# Altium footprint library Daxxn_Packages.PcbLib: 84 footprints (part 3 of 6)
Each footprint in its own frame and in the unit in brackets; x right, y up, seen from the top. Pads: shape width x height; smd on the part's side, far side on the other; paste and mask are expansions set on the pad; w line width, h text height; cw(c..) or ccw(c..) is an arc to the next point about the centre after c.
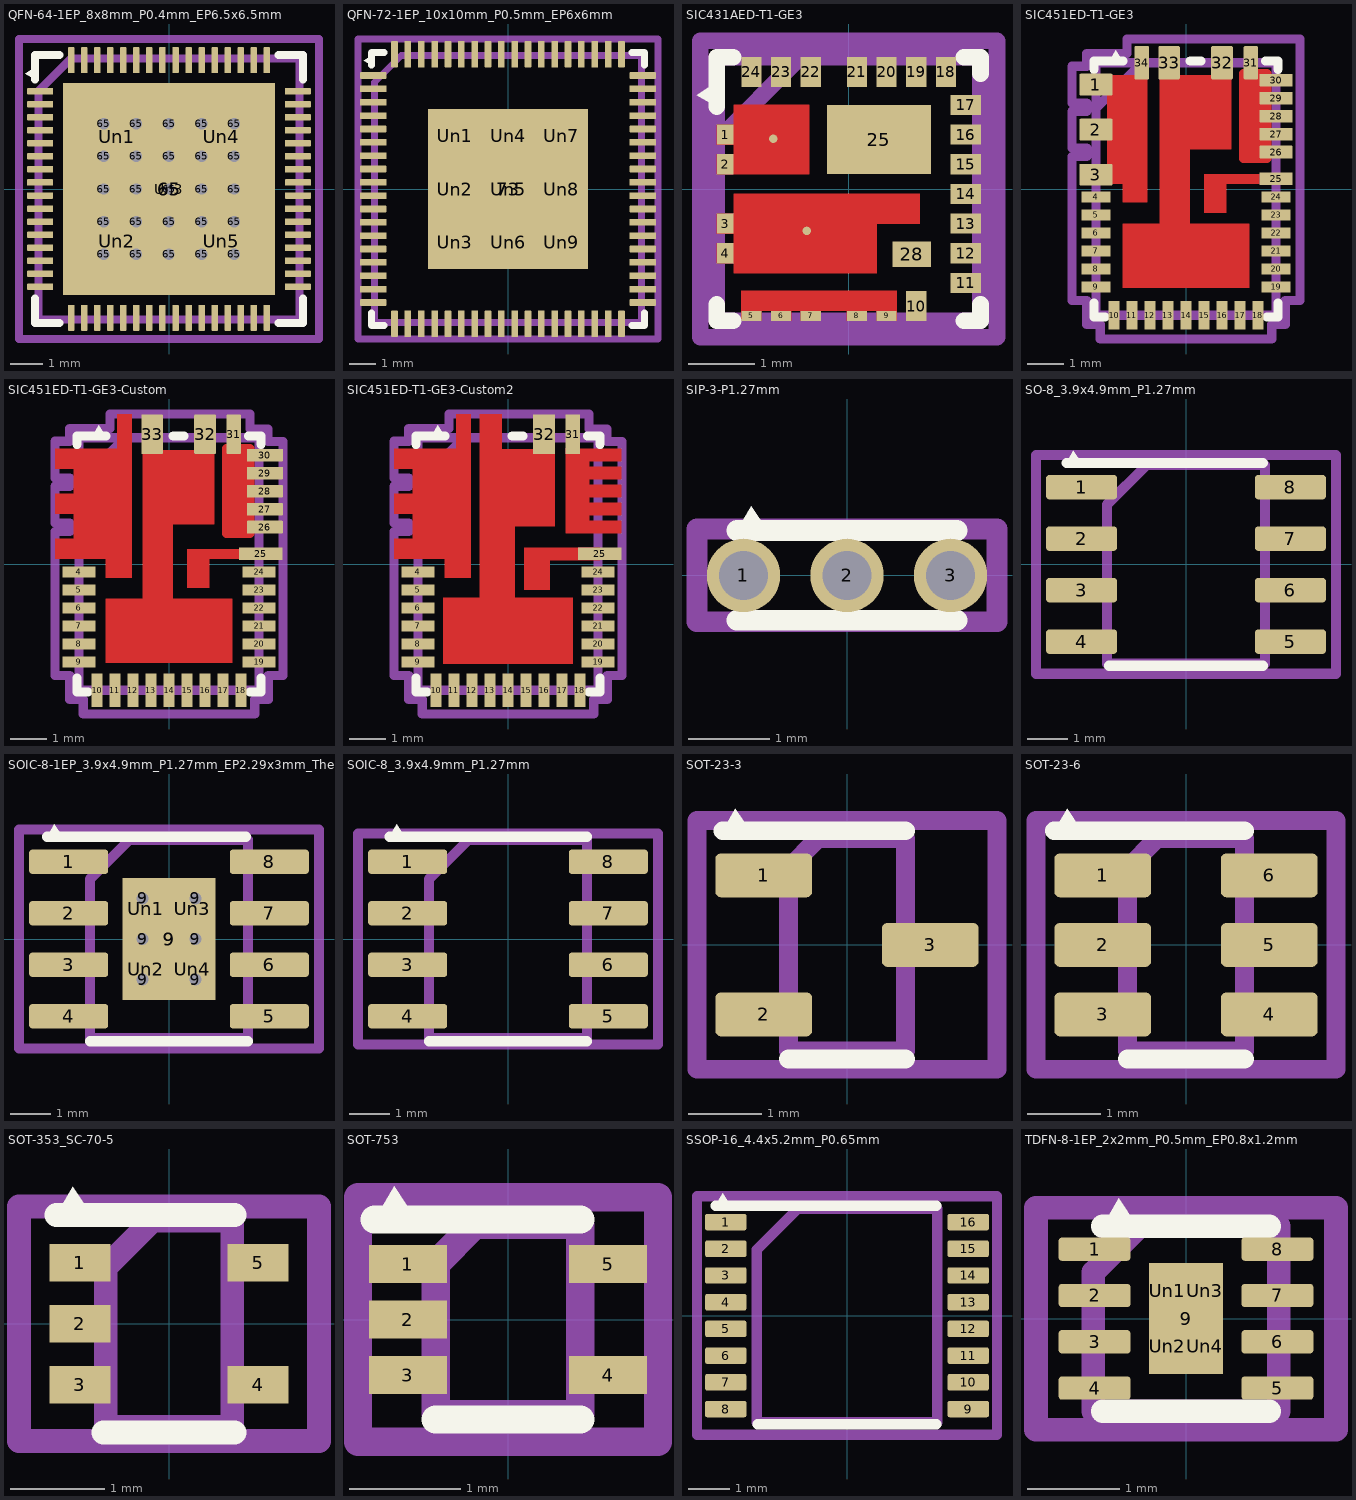
[diagram p2: the footprints below, top view; thin cyan lines are the x and y axes]

## QFN-64-1EP_8x8mm_P0.4mm_EP6.5x6.5mm [mm]
pads (96):
  rrect25% 0.8x0.2 smd: 1(-3.95,3) 2(-3.95,2.6) 3(-3.95,2.2) 4(-3.95,1.8) 5(-3.95,1.4) 6(-3.95,1) 7(-3.95,0.6) 8(-3.95,0.2) 9(-3.95,-0.2) 10(-3.95,-0.6) 11(-3.95,-1) 12(-3.95,-1.4) 13(-3.95,-1.8) 14(-3.95,-2.2) 15(-3.95,-2.6) 16(-3.95,-3) 33(3.95,-3) 34(3.95,-2.6) 35(3.95,-2.2) 36(3.95,-1.8) 37(3.95,-1.4) 38(3.95,-1) 39(3.95,-0.6) 40(3.95,-0.2) 41(3.95,0.2) 42(3.95,0.6) 43(3.95,1) 44(3.95,1.4) 45(3.95,1.8) 46(3.95,2.2) 47(3.95,2.6) 48(3.95,3)
  rrect25% 0.2x0.8 smd: 17(-3,-3.95) 18(-2.6,-3.95) 19(-2.2,-3.95) 20(-1.8,-3.95) 21(-1.4,-3.95) 22(-1,-3.95) 23(-0.6,-3.95) 24(-0.2,-3.95) 25(0.2,-3.95) 26(0.6,-3.95) 27(1,-3.95) 28(1.4,-3.95) 29(1.8,-3.95) 30(2.2,-3.95) 31(2.6,-3.95) 32(3,-3.95) 49(3,3.95) 50(2.6,3.95) 51(2.2,3.95) 52(1.8,3.95) 53(1.4,3.95) 54(1,3.95) 55(0.6,3.95) 56(0.2,3.95) 57(-0.2,3.95) 58(-0.6,3.95) 59(-1,3.95) 60(-1.4,3.95) 61(-1.8,3.95) 62(-2.2,3.95) 63(-2.6,3.95) 64(-3,3.95)
  round 0.5 hole 0.35: 65(-2,-2) 65(-2,-1) 65(-2,0) 65(-2,1) 65(-2,2) 65(-1,-2) 65(-1,-1) 65(-1,0) 65(-1,1) 65(-1,2) 65(0,-2) 65(0,-1) 65(0,0) 65(0,1) 65(0,2) 65(1,-2) 65(1,-1) 65(1,0) 65(1,1) 65(1,2) 65(2,-2) 65(2,-1) 65(2,0) 65(2,1) 65(2,2)
  rect 2.5x2.5 smd far side: 65(0,0)
  rect 6.5x6.5 smd: 65(0,0)
  rrect24% 1.725x1.725 on Top Paste: Un1(-1.6,1.6) Un2(-1.6,-1.6) Un4(1.6,1.6) Un5(1.6,-1.6)
  rrect24% 1.05x1.05 on Top Paste: Un3(0,0)
F.SilkS:
  region: -4.11,3.36 -4.41,3.535 -4.11,3.735
  lines w0.254: -4.11,-3.36 -4.11,-4.11 -3.36,-4.11 ; -4.11,3.36 -4.11,4.11 -3.36,4.11 ; 3.36,-4.11 4.11,-4.11 4.11,-3.36 ; 3.36,4.11 4.11,4.11 4.11,3.36
F.CrtYd:
  lines w0.254: -4.6,-4.6 -4.6,4.6 4.6,4.6 4.6,-4.6 -4.6,-4.6
F.Fab:
  lines w0.254: -4,-4 -4,3 -3,4 4,4 4,-4 -4,-4
  text "'.Designator'" at -1.037,0.165 h0.25

## QFN-72-1EP_10x10mm_P0.5mm_EP6x6mm [mm]
pads (82):
  rrect25% 1x0.25 smd: 1(-5.05,4.25) 2(-5.05,3.75) 3(-5.05,3.25) 4(-5.05,2.75) 5(-5.05,2.25) 6(-5.05,1.75) 7(-5.05,1.25) 8(-5.05,0.75) 9(-5.05,0.25) 10(-5.05,-0.25) 11(-5.05,-0.75) 12(-5.05,-1.25) 13(-5.05,-1.75) 14(-5.05,-2.25) 15(-5.05,-2.75) 16(-5.05,-3.25) 17(-5.05,-3.75) 18(-5.05,-4.25) 37(5.05,-4.25) 38(5.05,-3.75) 39(5.05,-3.25) 40(5.05,-2.75) 41(5.05,-2.25) 42(5.05,-1.75) 43(5.05,-1.25) 44(5.05,-0.75) 45(5.05,-0.25) 46(5.05,0.25) 47(5.05,0.75) 48(5.05,1.25) 49(5.05,1.75) 50(5.05,2.25) 51(5.05,2.75) 52(5.05,3.25) 53(5.05,3.75) 54(5.05,4.25)
  rrect25% 0.25x1 smd: 19(-4.25,-5.05) 20(-3.75,-5.05) 21(-3.25,-5.05) 22(-2.75,-5.05) 23(-2.25,-5.05) 24(-1.75,-5.05) 25(-1.25,-5.05) 26(-0.75,-5.05) 27(-0.25,-5.05) 28(0.25,-5.05) 29(0.75,-5.05) 30(1.25,-5.05) 31(1.75,-5.05) 32(2.25,-5.05) 33(2.75,-5.05) 34(3.25,-5.05) 35(3.75,-5.05) 36(4.25,-5.05) 55(4.25,5.05) 56(3.75,5.05) 57(3.25,5.05) 58(2.75,5.05) 59(2.25,5.05) 60(1.75,5.05) 61(1.25,5.05) 62(0.75,5.05) 63(0.25,5.05) 64(-0.25,5.05) 65(-0.75,5.05) 66(-1.25,5.05) 67(-1.75,5.05) 68(-2.25,5.05) 69(-2.75,5.05) 70(-3.25,5.05) 71(-3.75,5.05) 72(-4.25,5.05)
  rect 6x6 smd: 73(0,0)
  rrect16% 1.61x1.61 on Top Paste: Un1(-2,2) Un2(-2,0) Un3(-2,-2) Un4(0,2) Un5(0,0) Un6(0,-2) Un7(2,2) Un8(2,0) Un9(2,-2)
F.SilkS:
  region: -5.11,4.635 -5.41,4.81 -5.11,5.01
  lines w0.254: -5.11,-4.635 -5.11,-5.11 -4.635,-5.11 ; -5.11,4.635 -5.11,5.11 -4.635,5.11 ; 4.635,-5.11 5.11,-5.11 5.11,-4.635 ; 4.635,5.11 5.11,5.11 5.11,4.635
F.CrtYd:
  lines w0.254: -5.62,-5.62 -5.62,5.62 5.62,5.62 5.62,-5.62 -5.62,-5.62
F.Fab:
  lines w0.254: -5,-5 -5,4 -4,5 5,5 5,-5 -5,-5
  text "'.Designator'" at -1.037,0.065 h0.25

## SIC431AED-T1-GE3 [mil]
pads (28):
  rect 10x12 smd: 1(-73.74,32.48) 2(-73.74,14.76) 3(-73.74,-20.67) 4(-73.74,-38.39)
  rect 12x6 smd: 5(-58.08,-75.74) 6(-40.36,-75.74) 7(-22.64,-75.74) 8(4.92,-75.74) 9(22.64,-75.74)
  rect 12x18 smd: 10(40.36,-69.88) 18(58.08,69.88) 19(40.36,69.88) 20(22.64,69.88) 21(4.92,69.88) 22(-22.64,69.88) 23(-40.36,69.88) 24(-58.08,69.88)
  rect 18x12 smd: 11(69.88,-56.1) 12(69.88,-38.39) 13(69.88,-20.67) 14(69.88,-2.95) 15(69.88,14.76) 16(69.88,32.48) 17(69.88,50.2)
  rect 62x41.34 smd: 25(18.07,29.53)
  round 5 smd: 26(-45,30) 27(-25,-25)
  rect 22.84x14.96 smd: 28(37.65,-38.98)
F.Cu:
  region: -23.46,8.86 -78.74,8.76 -78.74,20.76 -68.74,20.76 -68.74,26.48 -78.74,26.48 -78.74,38.48 -68.74,38.48 -68.74,50.2 -23.46,50.2
  region: 42.48,-2.97 42.48,-20.89 16.89,-20.89 16.89,-50.22 -68.74,-50.22 -68.74,-44.39 -78.74,-44.39 -78.74,-32.39 -68.74,-32.39 -68.74,-26.67 -78.74,-26.67 -78.74,-14.67 -68.74,-14.67 -68.74,-2.97
  region: 28.64,-78.74 16.64,-78.74 16.64,-72.74 10.92,-72.74 10.92,-78.74 -1.08,-78.74 -1.08,-72.74 -16.64,-72.74 -16.64,-78.74 -28.64,-78.74 -28.64,-72.74 -34.36,-72.74 -34.36,-78.74 -46.36,-78.74 -46.36,-72.74 -52.08,-72.74 -52.08,-78.74 -64.08,-78.74 -64.08,-60.88 28.64,-60.88
F.SilkS:
  region: -78.74,49.21 -90.55,56.1 -78.74,63.98
  lines w10: -78.74,-68.9 -78.74,-78.74 -68.9,-78.74 ; -78.74,49.21 -78.74,78.74 -68.9,78.74 ; 68.9,-78.74 78.74,-78.74 78.74,-68.9 ; 68.9,78.74 78.74,78.74 78.74,68.9
F.Paste:
  region: 27.56,-66.93 -62.99,-66.93 -62.99,-59.06 27.56,-59.06
  region: -31.5,11.81 -59.06,11.81 -59.06,47.24 -31.5,47.24
  region: 11.81,-43.31 -59.06,-43.31 -59.06,-7.87 11.81,-7.87
  region: 43.31,15.75 -7.87,15.75 -7.87,43.31 43.31,43.31
  lines w10: -62.99,-66.93 -62.99,-59.06 27.56,-59.06 27.56,-66.93 -62.99,-66.93 ; -59.06,-43.31 -59.06,-7.87 11.81,-7.87 11.81,-43.31 -59.06,-43.31 ; -59.06,11.81 -59.06,47.24 -31.5,47.24 -31.5,11.81 -59.06,11.81 ; -7.87,15.75 -7.87,43.31 43.31,43.31 43.31,15.75 -7.87,15.75
F.Mask:
  region: -23.46,8.86 -78.74,8.76 -78.74,20.76 -68.74,20.76 -68.74,26.48 -78.74,26.48 -78.74,38.48 -68.74,38.48 -68.74,50.2 -23.46,50.2
  region: 42.48,-2.97 42.48,-20.89 16.89,-20.89 16.89,-50.22 -68.74,-50.22 -68.74,-44.39 -78.74,-44.39 -78.74,-32.39 -68.74,-32.39 -68.74,-26.67 -78.74,-26.67 -78.74,-14.67 -68.74,-14.67 -68.74,-2.97
  region: 28.64,-78.74 16.64,-78.74 16.64,-72.74 10.92,-72.74 10.92,-78.74 -1.08,-78.74 -1.08,-72.74 -16.64,-72.74 -16.64,-78.74 -28.64,-78.74 -28.64,-72.74 -34.36,-72.74 -34.36,-78.74 -46.36,-78.74 -46.36,-72.74 -52.08,-72.74 -52.08,-78.74 -64.08,-78.74 -64.08,-60.88 28.64,-60.88
F.CrtYd:
  lines w10: -88.58,-88.58 -88.58,88.58 88.58,88.58 88.58,-88.58 -88.58,-88.58
F.Fab:
  lines w10: -78.74,28.74 -28.74,78.74 ; -78.74,-78.74 -78.74,78.74 78.74,78.74 78.74,-78.74 -78.74,-78.74
  text "'.Designator'" at -40.81,0.59 h9.84
Cmts.User:
  text "Copyright 2021 Accelerated Designs. All rights reserved." at -96.55,-3.53 h5

## SIC451ED-T1-GE3 [mm]
pads (34):
  rrect10% 0.92x0.6 smd: 1(-2.502,2.901) 2(-2.502,1.651) 3(-2.502,0.399)
  rect 0.8x0.3 smd: 4(-2.502,-0.221) 5(-2.502,-0.719) 6(-2.502,-1.219) 7(-2.502,-1.72) 8(-2.502,-2.22) 9(-2.502,-2.72) 19(2.502,-2.72) 20(2.502,-2.22) 21(2.502,-1.72) 22(2.502,-1.219) 23(2.502,-0.719) 24(2.502,-0.221)
  rect 0.3x0.8 smd: 10(-1.999,-3.505) 11(-1.501,-3.505) 12(-1.001,-3.505) 13(-0.5,-3.505) 14(0,-3.505) 15(0.5,-3.505) 16(1.001,-3.505) 17(1.501,-3.505) 18(1.999,-3.505)
  rect 0.92x0.35 smd: 25(2.502,0.279)
  rrect10% 0.92x0.35 smd: 26(2.502,1.026) 27(2.502,1.524) 28(2.502,2.024) 29(2.502,2.525) 30(2.502,3.025)
  rrect15% 0.4x0.92 smd: 31(1.801,3.505)
  rrect10% 0.6x0.92 smd: 32(1.001,3.505) 33(-0.47,3.505)
  rrect10% 0.4x0.92 smd: 34(-1.229,3.505)
F.Cu:
  region: 2.25,0.85 1.601,0.85 1.601,3.205 2.25,3.205
  region: 2.038,0.152 1.115,0.152 1.115,-0.66 0.505,-0.66 0.505,0.406 2.038,0.406
  region: 0.707,3.062 1.255,3.062 1.255,1.11 0.107,1.11 0.107,-0.97 1.753,-0.97 1.753,-2.748 -1.753,-2.748 -1.753,-0.97 -0.724,-0.97 -0.724,3.062 -0.176,3.062 -0.176,3.155 0.707,3.155
  region: -1.382,3.062 -1.077,3.062 -1.077,-0.371 -1.75,-0.371 -1.75,0.145 -2.088,0.145 -2.088,0.693 -2.187,0.693 -2.187,1.357 -2.078,1.357 -2.078,1.945 -2.187,1.945 -2.187,2.607 -2.078,2.607 -2.078,3.155 -1.382,3.155
  lines w0.254: 1.601,0.85 1.601,3.205 2.25,3.205 2.25,0.85 1.601,0.85
F.SilkS:
  region: -1.75,3.55 -2.125,3.55 -1.95,3.85
  lines w0.254: -2.55,-3.168 -2.55,-3.55 -2.25,-3.55 ; -2.55,3.325 -2.55,3.55 -1.75,3.55 ; 0.117,3.55 0.414,3.55 ; 2.207,3.55 2.55,3.55 2.55,3.325 ; 2.25,-3.55 2.55,-3.55 2.55,-3.168
F.Paste:
  region: -1.15,-0.3 -1.7,-0.3 -1.7,2.85 -1.15,2.85
  region: 1.45,-2.55 -1.45,-2.55 -1.45,-1.25 1.45,-1.25
  region: 1,1.4 -0.5,1.4 -0.5,2.8 1,2.8
  region: 1,-0.55 0.6,-0.55 0.6,0.3 1,0.3
  lines w0.254: -1.7,-0.3 -1.7,2.85 -1.15,2.85 -1.15,-0.3 -1.7,-0.3 ; -1.45,-2.55 -1.45,-1.25 1.45,-1.25 1.45,-2.55 -1.45,-2.55 ; -0.5,1.4 -0.5,2.8 1,2.8 1,1.4 -0.5,1.4 ; 0.6,-0.55 0.6,0.3 1,0.3 1,-0.55 0.6,-0.55
F.Mask:
  region: 2.908,0.152 1.115,0.152 1.115,-0.66 0.505,-0.66 0.505,0.406 2.908,0.406
  region: 1.255,1.11 0.107,1.11 0.107,-0.97 1.753,-0.97 1.753,-2.748 -1.753,-2.748 -1.753,-0.97 -0.724,-0.97 -0.724,3.912 -0.216,3.912 -0.216,3.155 0.747,3.155 0.747,3.912 1.255,3.912
  region: -1.077,-0.371 -1.75,-0.371 -1.75,0.145 -2.908,0.145 -2.908,0.653 -2.187,0.653 -2.187,1.397 -2.908,1.397 -2.908,1.905 -2.187,1.905 -2.187,2.647 -2.908,2.647 -2.908,3.155 -1.382,3.155 -1.382,3.912 -1.077,3.912
  region: 1.953,3.152 2.908,3.152 2.908,2.898 2.202,2.898 2.202,2.652 2.908,2.652 2.908,2.398 2.202,2.398 2.202,2.151 2.908,2.151 2.908,1.897 2.202,1.897 2.202,1.651 2.908,1.651 2.908,1.397 2.202,1.397 2.202,1.153 2.908,1.153 2.908,0.899 1.648,0.899 1.648,3.912 1.953,3.912
F.CrtYd:
  lines w0.254: -3.162,-3.101 -3.162,0.907 -2.756,0.907 -2.756,1.143 -3.162,1.143 -3.162,2.159 -2.756,2.159 -2.756,2.393 -3.162,2.393 -3.162,3.409 -2.756,3.409 -2.756,3.759 -1.636,3.759 -1.636,4.166 3.162,4.166 3.162,-3.101 2.756,-3.101 2.756,-3.759 2.38,-3.759 2.38,-4.166 -2.38,-4.166 -2.38,-3.759 -2.756,-3.759 -2.756,-3.101 -3.162,-3.101
F.Fab:
  lines w0.254: -2.502,2.235 -1.232,3.505 ; -2.502,-3.505 -2.502,3.505 2.502,3.505 2.502,-3.505 -2.502,-3.505
  text "'.Designator'" at -1.037,0.015 h0.25

## SIC451ED-T1-GE3-Custom [mm]
pads (31):
  rect 0.001x0.001 smd: 1(-3.16,2.92)
  rect 0.92x0.3 smd: 4(-2.502,-0.221) 5(-2.502,-0.719) 6(-2.502,-1.219) 7(-2.502,-1.72) 8(-2.502,-2.22) 9(-2.502,-2.72) 19(2.502,-2.72) 20(2.502,-2.22) 21(2.502,-1.72) 22(2.502,-1.219) 23(2.502,-0.719) 24(2.502,-0.221)
  rect 0.3x0.92 smd: 10(-1.999,-3.505) 11(-1.501,-3.505) 12(-1.001,-3.505) 13(-0.5,-3.505) 14(0,-3.505) 15(0.5,-3.505) 16(1.001,-3.505) 17(1.501,-3.505) 18(1.999,-3.505)
  rect 1.2x0.35 smd: 25(2.55,0.279)
  rrect10% 1x0.35 smd: 26(2.66,1.026) 27(2.66,1.524) 28(2.66,2.024) 29(2.66,2.525) 30(2.66,3.025)
  rrect15% 0.4x1.1 smd: 31(1.801,3.604)
  rrect10% 0.6x1.1 smd: 32(1.001,3.604) 33(-0.47,3.604)
F.Cu:
  region: 2.25,0.85 1.601,0.85 1.601,3.205 2.25,3.205
  region: 2.038,0.152 1.115,0.152 1.115,-0.66 0.505,-0.66 0.505,0.406 2.038,0.406
  region: 0.707,3.062 1.255,3.062 1.255,1.11 0.107,1.11 0.107,-0.97 1.753,-0.97 1.753,-2.748 -1.753,-2.748 -1.753,-0.97 -0.724,-0.97 -0.724,3.062 -0.176,3.062 -0.176,3.155 0.707,3.155
  region: -1.035,-0.38 -1.76,-0.38 -1.76,0.145 -3.16,0.145 -3.16,0.695 -2.64,0.695 -2.64,1.395 -3.16,1.395 -3.16,1.945 -2.64,1.945 -2.64,2.645 -3.16,2.645 -3.16,2.92 -3.16,3.195 -1.435,3.195 -1.435,4.155 -1.035,4.155
  lines w0.254: 1.601,0.85 1.601,3.205 2.25,3.205 2.25,0.85 1.601,0.85
F.SilkS:
  region: -1.75,3.55 -2.125,3.55 -1.95,3.85
  lines w0.254: -2.55,-3.168 -2.55,-3.55 -2.25,-3.55 ; -2.55,3.325 -2.55,3.55 -1.75,3.55 ; 0.117,3.55 0.414,3.55 ; 2.207,3.55 2.55,3.55 2.55,3.325 ; 2.25,-3.55 2.55,-3.55 2.55,-3.168
F.Paste:
  region: -2.2,2.7 -3.1,2.7 -3.1,3.15 -2.2,3.15
  region: -2.2,1.45 -3.1,1.45 -3.1,1.9 -2.2,1.9
  region: -2.2,0.2 -3.1,0.2 -3.1,0.65 -2.2,0.65
  region: -1.1,-0.35 -1.7,-0.35 -1.7,2.55 -1.1,2.55
  region: 1.55,-2.65 -1.55,-2.65 -1.55,-1.2 1.55,-1.2
  region: -1.1,3.1 -1.35,3.1 -1.35,4.1 -1.1,4.1
  region: 1.15,1.25 -0.6,1.25 -0.6,2.55 1.15,2.55
  region: 1.05,-0.6 0.55,-0.6 0.55,0.35 1.05,0.35
  lines w0.254: -3.1,0.2 -3.1,0.65 -2.2,0.65 -2.2,0.2 -3.1,0.2 ; -3.1,1.45 -3.1,1.9 -2.2,1.9 -2.2,1.45 -3.1,1.45 ; -3.1,2.7 -3.1,3.15 -2.2,3.15 -2.2,2.7 -3.1,2.7 ; -1.7,-0.35 -1.7,2.55 -1.1,2.55 -1.1,-0.35 -1.7,-0.35 ; -1.55,-2.65 -1.55,-1.2 1.55,-1.2 1.55,-2.65 -1.55,-2.65 ; -1.35,3.1 -1.35,4.1 -1.1,4.1 -1.1,3.1 -1.35,3.1 ; -0.6,1.25 -0.6,2.55 1.15,2.55 1.15,1.25 -0.6,1.25 ; 0.55,-0.6 0.55,0.35 1.05,0.35 1.05,-0.6 0.55,-0.6
F.Mask:
  region: 2.908,0.152 1.115,0.152 1.115,-0.66 0.505,-0.66 0.505,0.406 2.908,0.406
  region: 1.255,1.11 0.107,1.11 0.107,-0.97 1.753,-0.97 1.753,-2.748 -1.753,-2.748 -1.753,-0.97 -0.724,-0.97 -0.724,3.912 -0.216,3.912 -0.216,3.155 0.747,3.155 0.747,3.912 1.255,3.912
  region: -1.077,-0.371 -1.75,-0.371 -1.75,0.145 -2.908,0.145 -2.908,0.653 -2.187,0.653 -2.187,1.397 -2.908,1.397 -2.908,1.905 -2.187,1.905 -2.187,2.647 -2.908,2.647 -2.908,3.155 -1.382,3.155 -1.382,3.912 -1.077,3.912
  region: 1.953,3.152 2.908,3.152 2.908,2.898 2.202,2.898 2.202,2.652 2.908,2.652 2.908,2.398 2.202,2.398 2.202,2.151 2.908,2.151 2.908,1.897 2.202,1.897 2.202,1.651 2.908,1.651 2.908,1.397 2.202,1.397 2.202,1.153 2.908,1.153 2.908,0.899 1.648,0.899 1.648,3.912 1.953,3.912
  region: -1.035,-0.38 -1.76,-0.38 -1.76,0.145 -3.16,0.145 -3.16,0.695 -2.64,0.695 -2.64,1.395 -3.16,1.395 -3.16,1.945 -2.64,1.945 -2.64,2.645 -3.16,2.645 -3.16,2.92 -3.16,3.195 -1.435,3.195 -1.435,4.155 -1.035,4.155
F.CrtYd:
  lines w0.254: -3.162,-3.101 -3.162,0.907 -2.756,0.907 -2.756,1.143 -3.162,1.143 -3.162,2.159 -2.756,2.159 -2.756,2.393 -3.162,2.393 -3.162,3.409 -2.756,3.409 -2.756,3.759 -1.636,3.759 -1.636,4.166 2.25,4.166 2.25,3.75 2.75,3.75 2.75,3.4 3.162,3.4 3.162,-3.101 2.756,-3.101 2.756,-3.759 2.38,-3.759 2.38,-4.166 -2.38,-4.166 -2.38,-3.759 -2.756,-3.759 -2.756,-3.101 -3.162,-3.101
F.Fab:
  lines w0.254: -2.502,2.235 -1.232,3.505 ; -2.502,-3.505 -2.502,3.505 2.502,3.505 2.502,-3.505 -2.502,-3.505
  text "'.Designator'" at -1.037,0.015 h0.25

## SIC451ED-T1-GE3-Custom2 [mm]
pads (25):
  rect 0.001x0.001 smd: 1(-3.16,2.92)
  rect 0.92x0.3 smd: 4(-2.502,-0.221) 5(-2.502,-0.719) 6(-2.502,-1.219) 7(-2.502,-1.72) 8(-2.502,-2.22) 9(-2.502,-2.72) 19(2.502,-2.72) 20(2.502,-2.22) 21(2.502,-1.72) 22(2.502,-1.219) 23(2.502,-0.719) 24(2.502,-0.221)
  rect 0.3x0.92 smd: 10(-1.999,-3.505) 11(-1.501,-3.505) 12(-1.001,-3.505) 13(-0.5,-3.505) 14(0,-3.505) 15(0.5,-3.505) 16(1.001,-3.505) 17(1.501,-3.505) 18(1.999,-3.505)
  rect 1.2x0.35 smd: 25(2.55,0.279)
  rect 0.4x1.1 smd: 31(1.801,3.604)
  rect 0.6x1.1 smd: 32(1.001,3.604)
F.Cu:
  region: -1.035,-0.38 -1.76,-0.38 -1.76,0.145 -3.16,0.145 -3.16,0.695 -2.64,0.695 -2.64,1.395 -3.16,1.395 -3.16,1.945 -2.64,1.945 -2.64,2.645 -3.16,2.645 -3.16,2.92 -3.16,3.195 -1.435,3.195 -1.435,4.155 -1.035,4.155
  region: 2.55,0.104 0.455,0.104 0.455,0.454 2.55,0.454
  region: 1.16,-0.711 0.455,-0.711 0.455,0.289 1.16,0.289
  region: 2.251,0.854 1.601,0.854 1.601,3.204 2.251,3.204
  region: 3.151,2.854 2.151,2.854 2.151,3.204 3.151,3.204
  region: 3.151,2.354 2.151,2.354 2.151,2.704 3.151,2.704
  region: 3.151,1.854 2.151,1.854 2.151,2.204 3.151,2.204
  region: 3.151,1.354 2.151,1.354 2.151,1.704 3.151,1.704
  region: 3.151,0.854 2.151,0.854 2.151,1.204 3.151,1.204
  region: 1.301,1.054 -0.779,1.054 -0.779,3.184 0.701,3.184 0.701,3.604 1.301,3.604
  region: 0.181,-0.996 -0.779,-0.996 -0.779,1.054 0.181,1.054
  region: 1.801,-2.774 -1.799,-2.774 -1.799,-0.936 1.801,-0.936
  region: -0.179,3.054 -0.779,3.054 -0.779,4.154 -0.179,4.154
F.SilkS:
  region: -1.75,3.55 -2.125,3.55 -1.95,3.85
  lines w0.254: -2.55,-3.168 -2.55,-3.55 -2.25,-3.55 ; -2.55,3.325 -2.55,3.55 -1.75,3.55 ; 0.117,3.55 0.414,3.55 ; 2.207,3.55 2.55,3.55 2.55,3.325 ; 2.25,-3.55 2.55,-3.55 2.55,-3.168
F.Paste:
  region: -2.2,2.7 -3.1,2.7 -3.1,3.15 -2.2,3.15
  region: -2.2,1.45 -3.1,1.45 -3.1,1.9 -2.2,1.9
  region: -2.2,0.2 -3.1,0.2 -3.1,0.65 -2.2,0.65
  region: -1.1,-0.3 -1.7,-0.3 -1.7,2.55 -1.1,2.55
  region: 1.55,-2.65 -1.55,-2.65 -1.55,-1.2 1.55,-1.2
  region: -1.1,3.1 -1.35,3.1 -1.35,4.1 -1.1,4.1
  region: 1.15,1.25 -0.6,1.25 -0.6,2.55 1.15,2.55
  region: 1.05,-0.6 0.55,-0.6 0.55,0.35 1.05,0.35
  region: 1.935,3.33 1.665,3.33 1.665,4.085 1.935,4.085
  region: 2.15,0.925 1.675,0.925 1.675,3.1 2.15,3.1
  region: 3.09,0.165 2.215,0.165 2.215,0.395 3.09,0.395
  region: 2.91,2.915 2.495,2.915 2.495,3.145 2.91,3.145
  region: 2.91,2.415 2.495,2.415 2.495,2.645 2.91,2.645
  region: 2.91,1.915 2.495,1.915 2.495,2.145 2.91,2.145
  region: 2.91,1.415 2.495,1.415 2.495,1.645 2.91,1.645
  region: 2.91,0.915 2.495,0.915 2.495,1.145 2.91,1.145
  region: 1.301,1.054 -0.779,1.054 -0.779,3.184 0.701,3.184 0.701,3.604 1.301,3.604
  region: 0.181,-0.996 -0.779,-0.996 -0.779,1.054 0.181,1.054
  region: 1.801,-2.774 -1.799,-2.774 -1.799,-0.936 1.801,-0.936
  region: -0.179,3.054 -0.779,3.054 -0.779,4.154 -0.179,4.154
  lines w0.254: -3.1,0.2 -3.1,0.65 -2.2,0.65 -2.2,0.2 -3.1,0.2 ; -3.1,1.45 -3.1,1.9 -2.2,1.9 -2.2,1.45 -3.1,1.45 ; -3.1,2.7 -3.1,3.15 -2.2,3.15 -2.2,2.7 -3.1,2.7 ; -1.7,-0.3 -1.7,2.55 -1.1,2.55 -1.1,-0.3 -1.7,-0.3 ; -1.55,-2.65 -1.55,-1.2 1.55,-1.2 1.55,-2.65 -1.55,-2.65 ; -1.35,3.1 -1.35,4.1 -1.1,4.1 -1.1,3.1 -1.35,3.1 ; -0.6,1.25 -0.6,2.55 1.15,2.55 1.15,1.25 -0.6,1.25 ; 0.55,-0.6 0.55,0.35 1.05,0.35 1.05,-0.6 0.55,-0.6 ; 1.665,3.33 1.665,4.085 1.935,4.085 1.935,3.33 1.665,3.33 ; 1.675,0.925 1.675,3.1 2.15,3.1 2.15,0.925 1.675,0.925 ; 2.215,0.165 2.215,0.395 3.09,0.395 3.09,0.165 2.215,0.165 ; 2.495,0.915 2.91,0.915 2.91,1.145 2.495,1.145 2.495,0.915 ; 2.495,1.415 2.91,1.415 2.91,1.645 2.495,1.645 2.495,1.415 ; 2.495,1.915 2.91,1.915 2.91,2.145 2.495,2.145 2.495,1.915 ; 2.495,2.415 2.91,2.415 2.91,2.645 2.495,2.645 2.495,2.415 ; 2.495,2.915 2.91,2.915 2.91,3.145 2.495,3.145 2.495,2.915
F.Mask:
  region: -1.035,-0.38 -1.76,-0.38 -1.76,0.145 -3.16,0.145 -3.16,0.695 -2.64,0.695 -2.64,1.395 -3.16,1.395 -3.16,1.945 -2.64,1.945 -2.64,2.645 -3.16,2.645 -3.16,2.92 -3.16,3.195 -1.435,3.195 -1.435,4.155 -1.035,4.155
  region: 2.55,0.104 0.455,0.104 0.455,0.454 2.55,0.454
  region: 1.16,-0.711 0.455,-0.711 0.455,0.289 1.16,0.289
  region: 2.251,0.854 1.601,0.854 1.601,3.204 2.251,3.204
  region: 3.151,2.854 2.151,2.854 2.151,3.204 3.151,3.204
  region: 3.151,2.354 2.151,2.354 2.151,2.704 3.151,2.704
  region: 3.151,1.854 2.151,1.854 2.151,2.204 3.151,2.204
  region: 3.151,1.354 2.151,1.354 2.151,1.704 3.151,1.704
  region: 3.151,0.854 2.151,0.854 2.151,1.204 3.151,1.204
  region: 1.301,1.054 -0.779,1.054 -0.779,3.184 0.701,3.184 0.701,3.604 1.301,3.604
  region: 0.181,-0.996 -0.779,-0.996 -0.779,1.054 0.181,1.054
  region: 1.801,-2.774 -1.799,-2.774 -1.799,-0.936 1.801,-0.936
  region: -0.179,3.054 -0.779,3.054 -0.779,4.154 -0.179,4.154
F.CrtYd:
  lines w0.254: -3.162,-3.101 -3.162,0.907 -2.756,0.907 -2.756,1.143 -3.162,1.143 -3.162,2.159 -2.756,2.159 -2.756,2.393 -3.162,2.393 -3.162,3.409 -2.756,3.409 -2.756,3.759 -1.636,3.759 -1.636,4.166 2.25,4.166 2.25,3.75 2.75,3.75 2.75,3.4 3.162,3.4 3.162,-3.101 2.756,-3.101 2.756,-3.759 2.38,-3.759 2.38,-4.166 -2.38,-4.166 -2.38,-3.759 -2.756,-3.759 -2.756,-3.101 -3.162,-3.101
F.Fab:
  lines w0.254: -2.502,2.235 -1.232,3.505 ; -2.502,-3.505 -2.502,3.505 2.502,3.505 2.502,-3.505 -2.502,-3.505
  text "'.Designator'" at -1.037,0.015 h0.25

## SIP-3-P1.27mm [mm]
pads (3):
  round 0.9 hole 0.6: 1(-1.27,0) 2(0,0) 3(1.27,0)
F.SilkS:
  region: -0.975,0.55 -1.35,0.55 -1.175,0.85
  lines w0.254: -1.35,-0.55 1.35,-0.55 ; -1.35,0.55 1.35,0.55
F.CrtYd:
  lines w0.254: -1.84,-0.57 -1.84,0.57 1.84,0.57 1.84,-0.57 -1.84,-0.57
F.Fab:
  text "'.Designator'" at -1.037,0.015 h0.25

## SO-8_3.9x4.9mm_P1.27mm [mm]
pads (8):
  rrect25% 1.75x0.6 smd: 1(-2.575,1.905) 2(-2.575,0.635) 3(-2.575,-0.635) 4(-2.575,-1.905) 5(2.575,-1.905) 6(2.575,-0.635) 7(2.575,0.635) 8(2.575,1.905)
F.SilkS:
  region: -2.575,2.5 -2.95,2.5 -2.775,2.8
  lines w0.254: -2.95,2.5 0,2.5 1.9,2.5 ; -1.9,-2.5 1.9,-2.5
F.CrtYd:
  lines w0.254: -3.7,-2.7 -3.7,2.7 3.7,2.7 3.7,-2.7 -3.7,-2.7
F.Fab:
  lines w0.254: -1.95,-2.45 -1.95,1.475 -0.975,2.45 1.95,2.45 1.95,-2.45 -1.95,-2.45
  text "'.Designator'" at -1.037,-0.01 h0.25

## SOIC-8-1EP_3.9x4.9mm_P1.27mm_EP2.29x3mm_ThermalVias [mm]
pads (20):
  rrect25% 1.95x0.6 smd: 1(-2.475,1.905) 2(-2.475,0.635) 3(-2.475,-0.635) 4(-2.475,-1.905) 5(2.475,-1.905) 6(2.475,-0.635) 7(2.475,0.635) 8(2.475,1.905)
  round 0.5 hole 0.3: 9(-0.65,-1) 9(-0.65,0) 9(-0.65,1) 9(0.65,-1) 9(0.65,0) 9(0.65,1)
  rect 1.8x2.5 smd far side: 9(0,0)
  rect 2.29x3 smd: 9(0,0)
  rrect25% 0.96x1.25 on Top Paste: Un1(-0.57,0.75) Un2(-0.57,-0.75) Un3(0.57,0.75) Un4(0.57,-0.75)
F.SilkS:
  region: -2.625,2.525 -3,2.525 -2.825,2.825
  lines w0.254: -3,2.525 1.9,2.525 ; -1.95,-2.525 1.95,-2.525
F.CrtYd:
  lines w0.254: -3.7,-2.7 -3.7,2.7 3.7,2.7 3.7,-2.7 -3.7,-2.7
F.Fab:
  lines w0.254: -1.95,-2.45 -1.95,1.475 -0.975,2.45 1.95,2.45 1.95,-2.45 -1.95,-2.45
  text "'.Designator'" at -0.015,-1.037 h0.25

## SOIC-8_3.9x4.9mm_P1.27mm [mm]
pads (8):
  rrect25% 1.95x0.6 smd: 1(-2.475,1.905) 2(-2.475,0.635) 3(-2.475,-0.635) 4(-2.475,-1.905) 5(2.475,-1.905) 6(2.475,-0.635) 7(2.475,0.635) 8(2.475,1.905)
F.SilkS:
  region: -2.55,2.525 -2.925,2.525 -2.75,2.825
  lines w0.254: -2.925,2.525 0,2.525 1.95,2.525 ; -1.95,-2.525 1.95,-2.525
F.CrtYd:
  lines w0.254: -3.7,-2.6 -3.7,2.6 3.7,2.6 3.7,-2.6 -3.7,-2.6
F.Fab:
  lines w0.254: -1.95,-2.45 -1.95,1.475 -0.975,2.45 1.95,2.45 1.95,-2.45 -1.95,-2.45
  text "'.Designator'" at -1.037,0.015 h0.25

## SOT-23-3 [mm]
pads (3):
  rrect25% 1.325x0.6 smd: 1(-1.138,0.95) 2(-1.138,-0.95) 3(1.138,0)
F.SilkS:
  region: -1.325,1.56 -1.7,1.56 -1.525,1.86
  lines w0.254: -1.7,1.56 0,1.56 0.8,1.56 ; -0.8,-1.56 0,-1.56 0.8,-1.56
F.CrtYd:
  lines w0.254: -2.05,-1.7 -2.05,1.7 2.05,1.7 2.05,-1.7 -2.05,-1.7
F.Fab:
  lines w0.254: -0.8,-1.45 -0.8,1.05 -0.4,1.45 0.8,1.45 0.8,-1.45 -0.8,-1.45
  text "'.Designator'" at -1.037,0.065 h0.25

## SOT-23-6 [mm]
pads (6):
  rrect25% 1.325x0.6 smd: 1(-1.138,0.95) 2(-1.138,0) 3(-1.138,-0.95) 4(1.138,-0.95) 5(1.138,0) 6(1.138,0.95)
F.SilkS:
  region: -1.425,1.56 -1.8,1.56 -1.625,1.86
  lines w0.254: -1.8,1.56 0,1.56 0.8,1.56 ; -0.8,-1.56 0,-1.56 0.8,-1.56
F.CrtYd:
  lines w0.254: -2.05,-1.7 -2.05,1.7 2.05,1.7 2.05,-1.7 -2.05,-1.7
F.Fab:
  lines w0.254: -0.8,-1.45 -0.8,1.05 -0.4,1.45 0.8,1.45 0.8,-1.45 -0.8,-1.45
  text "'.Designator'" at -1.034,0.017 h0.25

## SOT-353_SC-70-5 [mm]
pads (5):
  rect 0.65x0.4 smd: 1(-0.95,0.65) 2(-0.95,0) 3(-0.95,-0.65) 4(0.95,-0.65) 5(0.95,0.65)
F.SilkS:
  region: -0.825,1.16 -1.2,1.16 -1.025,1.46
  lines w0.254: -1.2,1.16 0.7,1.16 ; -0.7,-1.16 0.7,-1.16
F.CrtYd:
  lines w0.254: -1.6,-1.25 -1.6,1.25 1.6,1.25 1.6,-1.25 -1.6,-1.25
F.Fab:
  lines w0.254: -0.675,-1.1 -0.675,0.6 -0.175,1.1 0.675,1.1 0.675,-1.1 -0.675,-1.1
  text "'.Designator'" at -0.015,-1.037 h0.25

## SOT-753 [mm]
pads (5):
  rect 0.7x0.34 smd: 1(-0.9,0.5) 2(-0.9,0) 3(-0.9,-0.5) 4(0.9,-0.5) 5(0.9,0.5)
F.SilkS:
  region: -0.825,0.9 -1.2,0.9 -1.025,1.2
  lines w0.254: -1.2,0.9 0.65,0.9 ; -0.65,-0.9 0.65,-0.9
F.CrtYd:
  lines w0.254: -1.35,-1.1 -1.35,1.1 1.35,1.1 1.35,-1.1 -1.35,-1.1
F.Fab:
  lines w0.254: -0.65,-0.85 -0.65,0.5 -0.3,0.85 0.65,0.85 0.65,-0.85 -0.65,-0.85
  text "'.Designator'" at 0.035,-1.037 h0.25

## SSOP-16_4.4x5.2mm_P0.65mm [mm]
pads (16):
  rrect20% 1x0.4 smd: 1(-2.95,2.275) 2(-2.95,1.625) 3(-2.95,0.975) 4(-2.95,0.325) 5(-2.95,-0.325) 6(-2.95,-0.975) 7(-2.95,-1.625) 8(-2.95,-2.275) 9(2.95,-2.275) 10(2.95,-1.625) 11(2.95,-0.975) 12(2.95,-0.325) 13(2.95,0.325) 14(2.95,0.975) 15(2.95,1.625) 16(2.95,2.275)
F.SilkS:
  region: -2.825,2.675 -3.2,2.675 -3.025,2.975
  lines w0.254: -3.2,2.675 2.175,2.675 ; -2.175,-2.65 2.175,-2.65
F.CrtYd:
  lines w0.254: -3.65,-2.9 -3.65,2.9 3.65,2.9 3.65,-2.9 -3.65,-2.9
F.Fab:
  lines w0.254: -2.2,-2.6 -2.2,1.6 -1.2,2.6 2.2,2.6 2.2,-2.6 -2.2,-2.6
  text "'.Designator'" at -2.073,0.005 h0.5

## TDFN-8-1EP_2x2mm_P0.5mm_EP0.8x1.2mm [mm]
pads (13):
  rrect25% 0.775x0.25 smd: 1(-0.988,0.75) 2(-0.988,0.25) 3(-0.988,-0.25) 4(-0.988,-0.75) 5(0.988,-0.75) 6(0.988,-0.25) 7(0.988,0.25) 8(0.988,0.75)
  rect 0.8x1.2 smd: 9(0,0)
  rrect25% 0.32x0.48 on Top Paste: Un1(-0.2,0.3) Un2(-0.2,-0.3) Un3(0.2,0.3) Un4(0.2,-0.3)
F.SilkS:
  region: -0.525,1 -0.9,1 -0.725,1.3
  lines w0.254: -0.9,-1 0.9,-1 ; -0.9,1 0.9,1
F.CrtYd:
  lines w0.254: -1.62,-1.2 -1.62,1.2 1.62,1.2 1.62,-1.2 -1.62,-1.2
F.Fab:
  lines w0.254: -1,-1 -1,0.5 -0.5,1 1,1 1,-1 -1,-1
  text "'.Designator'" at -1.037,0.365 h0.25